# Altium footprint library FF_pcb_lib.PcbLib: 102 footprints (part 3 of 7)
Each footprint in its own frame and in the unit in brackets; x right, y up, seen from the top. Pads: shape width x height; smd on the part's side, far side on the other; paste and mask are expansions set on the pad; w line width, h text height; cw(c..) or ccw(c..) is an arc to the next point about the centre after c.
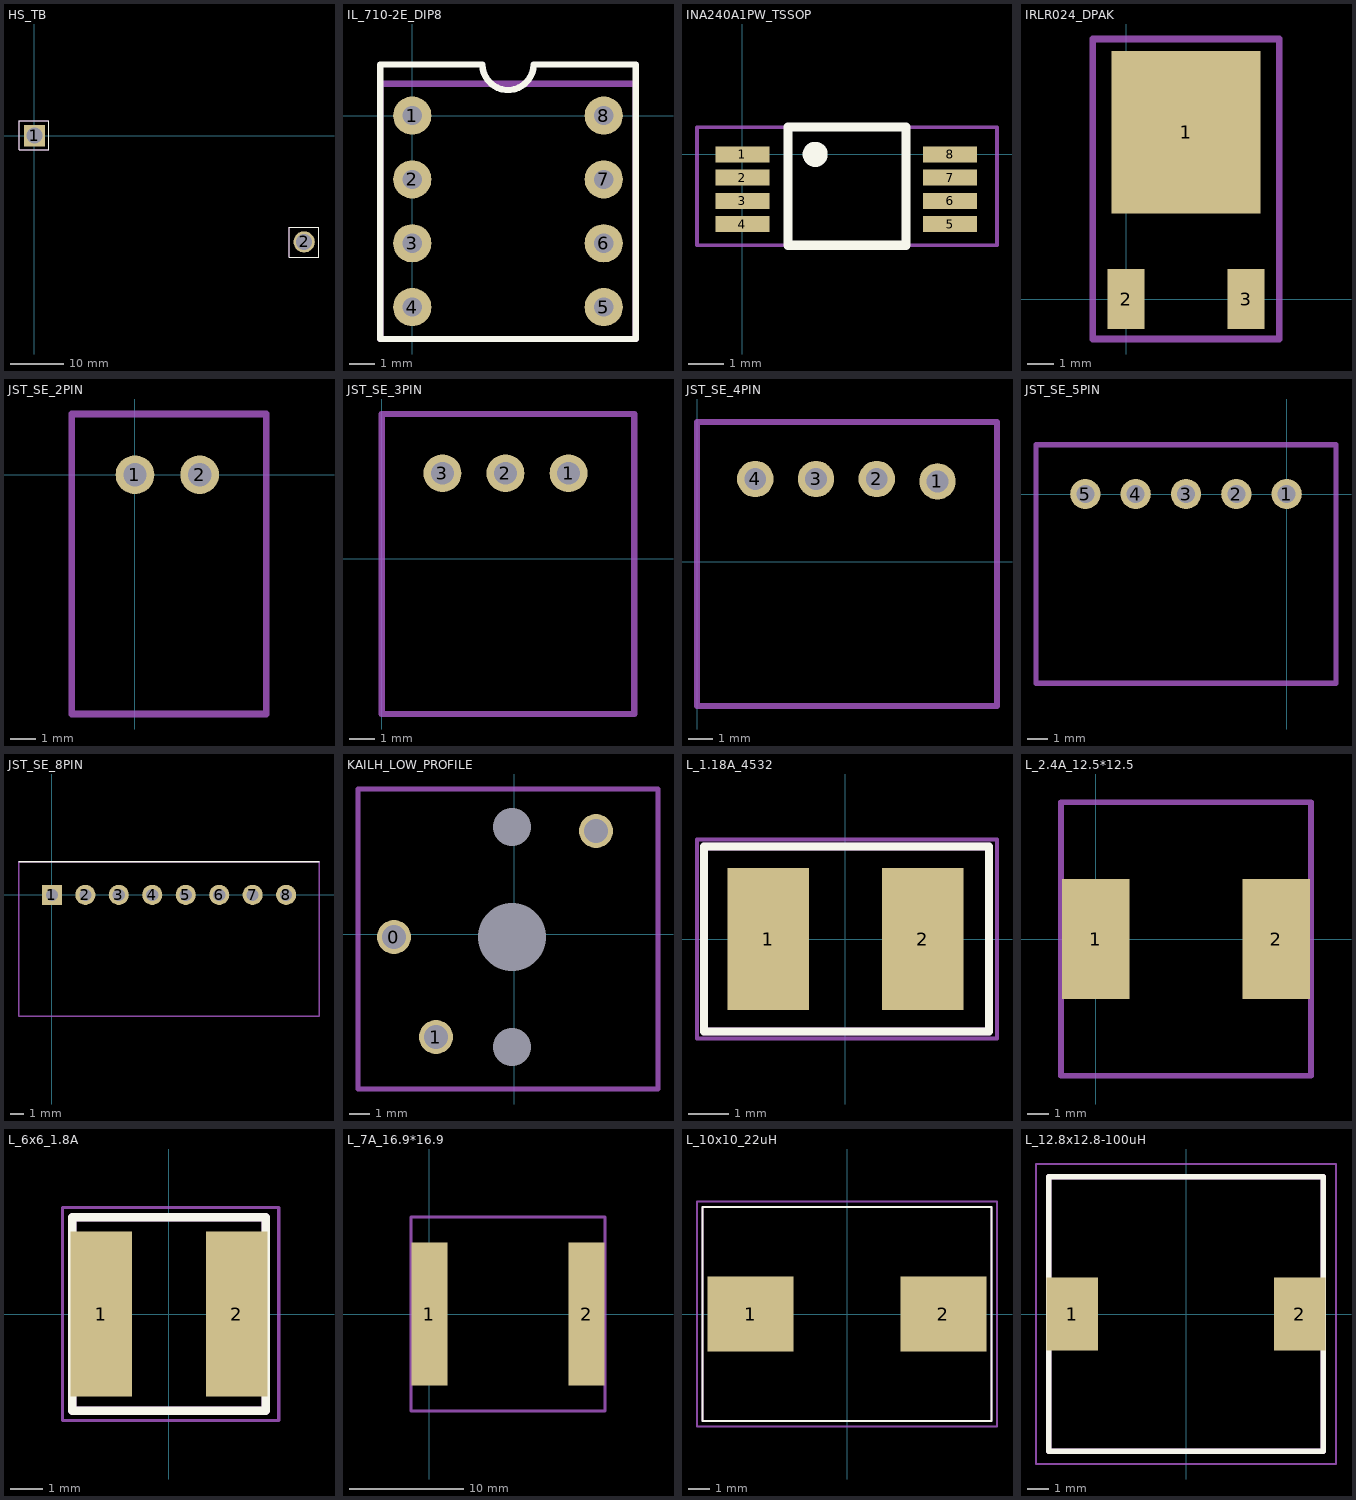
[diagram p2: the footprints below, top view; thin cyan lines are the x and y axes]

## HS_TB [mm]
pads (2):
  rect 4x4 hole 3: 1(0,0)
  round 4 hole 3: 2(50.8,-20.02)
Top Overlay:
  lines w0.1: -2.9,-2.7 -2.9,2.8 2.7,2.8 2.7,-2.7 -2.9,-2.7 ; 48,-22.9 53.6,-22.9 53.6,-22.7 53.6,-17.3 48,-17.3 48,-22.9
Mechanical 13:
  lines w0.1: -2.9,-2.7 2.7,-2.7 2.7,2.8 -2.9,2.8 -2.9,-2.7 ; 48,-22.9 48,-17.3 53.6,-17.3 53.6,-22.7 53.6,-22.9 48,-22.9

## IL_710-2E_DIP8 [mil]
pads (8):
  round 60 hole 30: 1(0,0) 2(0,-100) 3(0,-200) 4(0,-300) 5(300,-300) 6(300,-200) 7(300,-100) 8(300,0)
Top Overlay:
  lines w10: -50,-350 -50,80 110,80 ccw(c150,80) 190,80 350,80 350,-350 -50,-350
Courtyard:
  lines w10: -50,-350 350,-350 350,50 -50,50 -50,-350

## INA240A1PW_TSSOP [mm]
pads (8):
  rect 1.5x0.45 smd mask+0.05: 1(0,0) 2(0,-0.65) 3(0,-1.3) 4(0,-1.95) 5(5.8,-1.95) 6(5.8,-1.3) 7(5.8,-0.65) 8(5.8,0)
Top Overlay:
  circle w0.5: c2.032,0 r0.1
  lines w0.254: 1.27,-2.54 4.572,-2.54 4.572,0.762 1.27,0.762 1.27,-2.54
Courtyard:
  lines w0.1: -1.27,-2.54 7.112,-2.54 7.112,0.762 -1.27,0.762 -1.27,-2.54
3D body: height 8.34, standoff -3.05, extent 1.27,-2.54 4.572,0.762

## IRLR024_DPAK [mil]
pads (3):
  rect 224.02x243.31 smd: 1(90,250)
  rect 55x90 smd: 2(0,0) 3(180,0)
Courtyard:
  lines w10: -50,-60 -50,390 230,390 230,-60 -50,-60
3D body: height 328.35, standoff -120.08, extent -40,350 -40,350
3D body: height 157.48, standoff 0, extent -30,90 210,350

## JST_SE_2PIN [mm]
pads (2):
  round 1.5 hole 0.9: 1(0,0) 2(2.5,0)
Courtyard:
  lines w0.254: 5.08,2.286 5.08,-9.25 -2.45,-9.25 -2.45,2.35 5.08,2.35
3D body "S2B-XH-A.stp": height 6.1, standoff -3.4, extent -2.45,-9.2 4.95,2.3

## JST_SE_3PIN [mm]
pads (3):
  round 1.5 hole 0.9: 1(7.4,3.4) 2(4.9,3.4) 3(2.4,3.4)
Courtyard:
  lines w0.254: 0,-6.15 3.65,-6.15 10,-6.15 10,-2.887 10,5.75 0,5.75 0,-6.15
3D body "S3B-XH-A.stp": height 6.1, standoff -3.4, extent -0.05,-5.8 9.85,5.7

## JST_SE_4PIN [mm]
pads (4):
  round 1.5 hole 0.9: 1(9.9,3.3) 2(7.4,3.4) 3(4.9,3.4) 4(2.4,3.4)
Courtyard:
  lines w0.254: 0,-5.95 0,5.75 12.35,5.75 12.35,-5.95 0,-5.95
3D body "S4B-XH-A.stp": height 6.1, standoff -3.4, extent -0.05,-5.8 12.35,5.7

## JST_SE_5PIN [mm] "for side PCB"
pads (5):
  round 1.5 hole 0.9: 1(0,0) 2(-2.5,0) 3(-5,0) 4(-7.5,0) 5(-10,0)
Courtyard:
  lines w0.254: 2.45,0 2.45,2.45 ; 2.45,2.45 -12.45,2.45 -12.45,-9.4 2.45,-9.4 2.45,2.45
3D body "S5B-XH-A.stp": height 6.1, standoff -3.4, extent -12.45,-9.2 2.45,2.3

## JST_SE_8PIN [mm]
pads (8):
  rect 1.5x1.5 hole 0.9: 1(0,0)
  round 1.5 hole 0.9: 2(2.5,0) 3(5,0) 4(7.5,0) 5(10,0) 6(12.5,0) 7(15,0) 8(17.5,0)
Top Overlay:
  lines w0.1: -2.45,2.45 19.95,2.45
Mechanical 15:
  lines w0.1: -2.45,-9.05 -2.45,2.45 19.95,2.45 19.95,-9.05 -2.45,-9.05
3D body "S8B-XH-A.stp": height 8.1, standoff -1.4, extent -2.45,-9.2 19.95,2.3

## KAILH_LOW_PROFILE [mm]
pads (6):
  round 1.7 hole 1.2: 0(-6.02,-0.138) 1(-3.92,-5.138) ""(4.08,5.162)
  round 1.524 hole 1.9: ""(-0.12,-5.638) ""(-0.12,5.362)
  round 1.524 hole 3.4: ""(-0.12,-0.138)
Courtyard:
  lines w0.254: -7.82,-7.738 7.18,-7.738 7.18,7.262 -7.82,7.262 -7.82,-7.738
3D body: height 8, standoff 0, extent -7.82,-7.738 7.18,7.262

## L_1.18A_4532 [mm]
pads (2):
  rect 2x3.5 smd: 1(-1.9,0) 2(1.9,0)
Top Overlay:
  lines w0.2: -3.475,-2.275 -3.475,0.225 -3.475,2.275 3.525,2.275 3.525,-2.275 -3.475,-2.275
Mechanical 13:
  lines w0.2: -3.475,-2.275 3.525,-2.275 3.525,2.275 -3.475,2.275 -3.475,0.225 -3.475,-2.275
Mechanical 15:
  lines w0.1: -3.65,-2.45 3.725,-2.45 3.725,2.45 -3.25,2.45 -3.65,2.45 -3.65,2.05 -3.65,-2.45
3D body: height 2.6, standoff 0.1, extent -1.9,-2 1.9,2

## L_2.4A_12.5*12.5 [mm]
height 6
pads (2):
  rect 3.1x5.5 smd: 1(0,0) 2(8.3,0)
Courtyard:
  lines w0.254: -1.6,-6.3 -1.6,6.3 9.9,6.3 9.9,-6.3 -1.6,-6.3

## L_6x6_1.8A [mm]
pads (2):
  rect 1.9x5.1 smd: 1(-2.1,0) 2(2.1,0)
Top Overlay:
  lines w0.254: -3,-3 3,-3 3,3 0,3 -3,3 -3,-3
Mechanical 13:
  lines w0.254: -3,-3 -3,3 0,3 3,3 3,-3 -3,-3
  text "'.Designator'" at -0.6,-0.2 h0.7
Mechanical 15:
  lines w0.1: -3.3,-3.3 3.4,-3.3 3.4,3.3 -3.3,3.3 -3.3,-3.3
3D body: height 4.5, standoff 0.1, extent -2.9,-2.9 2.9,2.9

## L_7A_16.9*16.9 [mm]
height 6.7
pads (2):
  rect 3.15x12.5 smd: 1(0,0) 2(13.775,0)
Courtyard:
  lines w0.254: -1.6,-8.5 15.4,-8.5 15.4,8.5 -1.6,8.5 -1.6,-8.5

## L_10x10_22uH [mm]
pads (2):
  rect 4x3.5 smd: 1(-4.5,0) 2(4.5,0)
Top Overlay:
  lines w0.1: -6.75,-5 -6.75,5 6.75,5 6.75,-5 -6.75,-5
Mechanical 13:
  lines w0.1: -6.75,-5 6.75,-5 6.75,5 -6.75,5 -6.75,-5
Mechanical 15:
  lines w0.1: -7,-5.25 -7,5.25 7,5.25 7,-5.25 -7,-5.25
3D body: height 5, standoff 0.1, extent -5,-5 5,5

## L_12.8x12.8-100uH [mm]
pads (2):
  rect 2.4x3.4 smd: 1(-5.3,0) 2(5.3,0)
Top Overlay:
  lines w0.254: -6.4,-6.4 -6.4,6.4 0,6.4 6.4,6.4 6.4,-6.4 -6.4,-6.4
Mechanical 13:
  lines w0.254: -6.4,-6.4 6.4,-6.4 6.4,6.4 0,6.4 -6.4,6.4 -6.4,-6.4
  text "'.Designator'" at -2.3,-0.1 h0.7
Mechanical 15:
  lines w0.1: -7,-7 -7,7 7,7 7,-7 -7,-7
3D body: height 8, standoff 0.1, extent -6.3,-6.3 6.3,6.3